# Altium footprint library RFID.PcbLib: 28 footprints (part 1 of 2)
Each footprint in its own frame and in the unit in brackets; x right, y up, seen from the top. Pads: shape width x height; smd on the part's side, far side on the other; paste and mask are expansions set on the pad; w line width, h text height; cw(c..) or ccw(c..) is an arc to the next point about the centre after c.
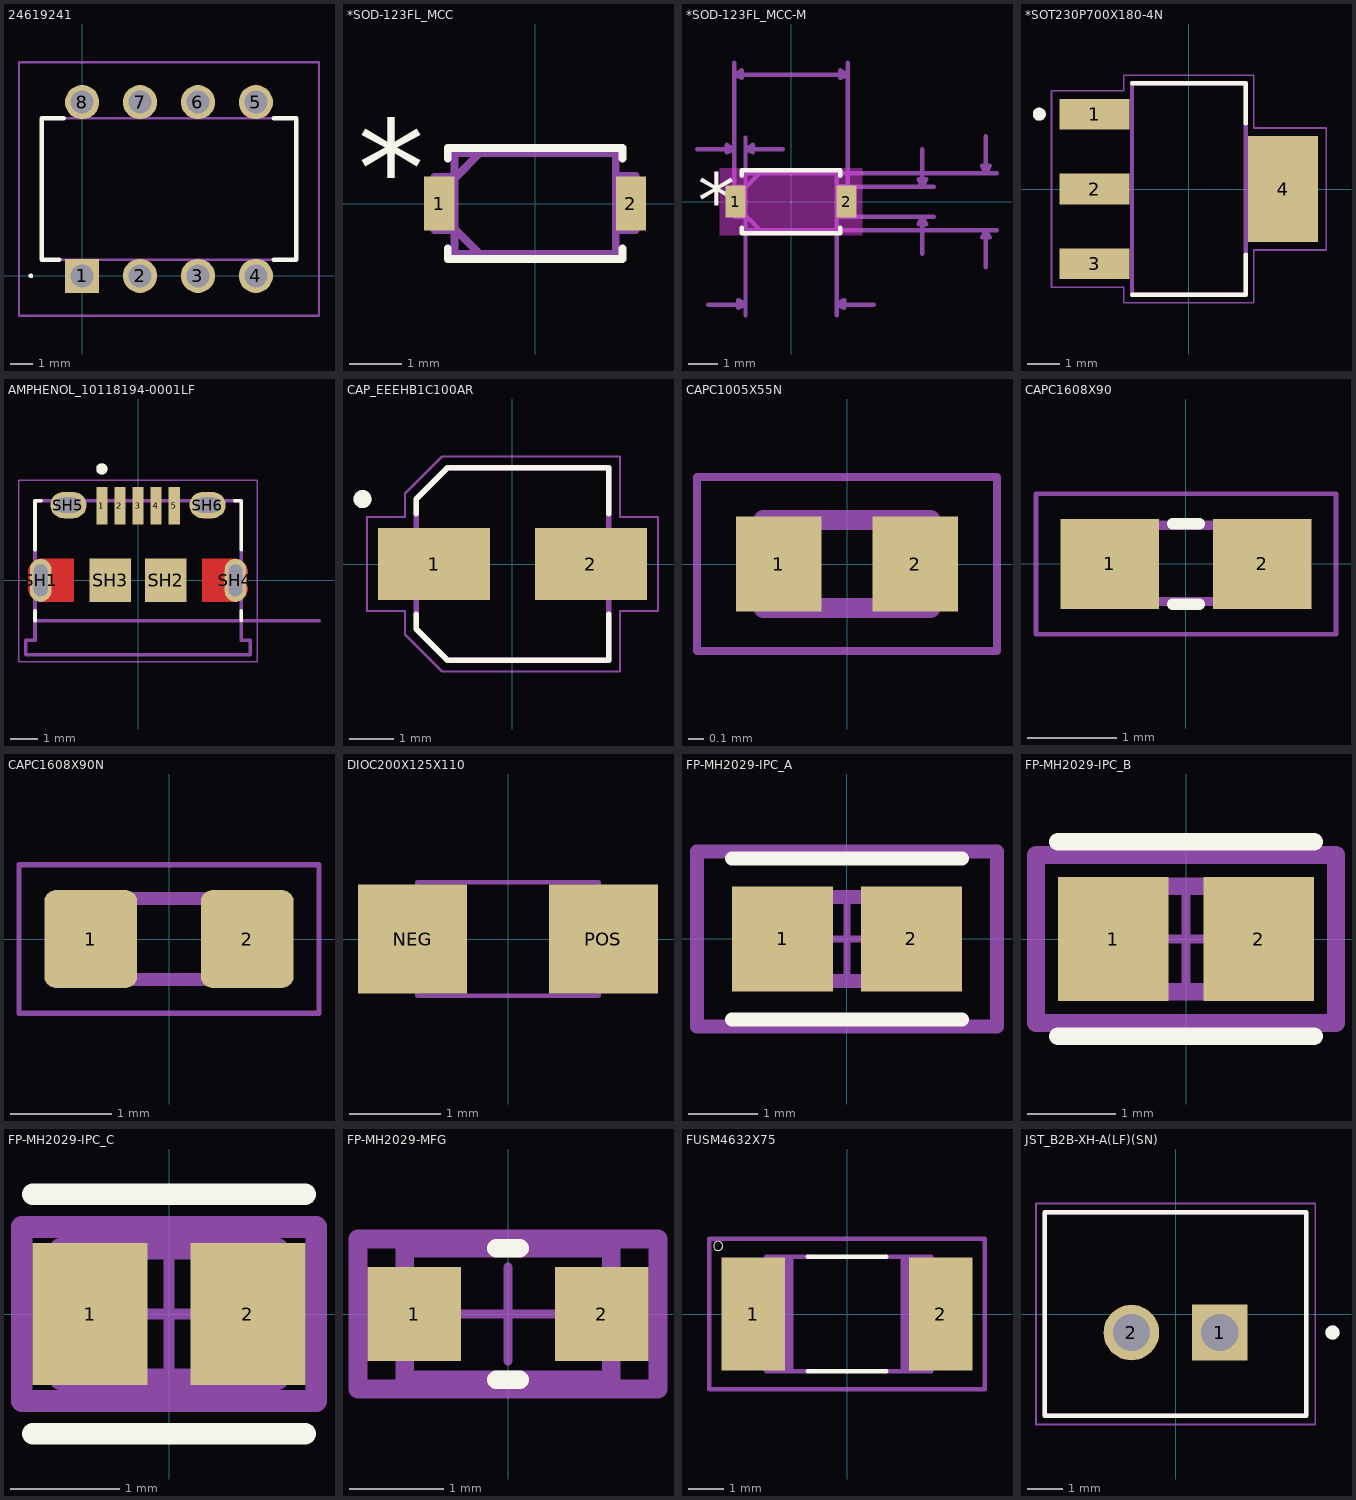
[diagram p0: the footprints below, top view; thin cyan lines are the x and y axes]

## 24619241 [mm]
pads (8):
  rect 1.5x1.5 hole 1: 1(0,0)
  round 1.5 hole 1: 2(2.54,0) 3(5.08,0) 4(7.62,0) 5(7.62,7.62) 6(5.08,7.62) 7(2.54,7.62) 8(0,7.62)
Top Overlay:
  lines w0.1: -2.3,0 cw(c-2.25,0) -2.2,0 cw(c-2.25,0) -2.3,0
  lines w0.2: -1,0.71 -1.77,0.71 -1.77,6.91 -0.8,6.91 ; 8.4,0.71 9.39,0.71 9.39,6.91 8.4,6.91
Mechanical 13:
  lines w0.1: -1.77,0.71 9.39,0.71 9.39,6.91 -1.77,6.91 -1.77,0.71
Mechanical 15:
  lines w0.1: -2.77,-1.75 10.39,-1.75 10.39,9.37 -2.77,9.37 -2.77,-1.75
3D body "2461924-1.stp": height 4.06, standoff -5, extent -1.77,-0.397 9.39,8.017

## *SOD-123FL_MCC [mil]
pads (2):
  rect 22.87x41 smd: 1(-72.44,0) 2(72.44,0)
Top Overlay:
  lines w6: -66,-34 -66,-42 66,-42 66,-34 ; -66,34 -66,42 66,42 66,34
  text "*" at -133.86,-9.84 h73.82
Mechanical 4:
  lines w6: -76,-20 -76,20 ; -76,-20 -61,-20 ; -76,-20 -76,20 ; -76,-20 -61,-20 ; -76,20 -61,20 ; -76,20 -61,20 ; -61,-38 61,-38 ; -61,-38 -61,38 ; -61,-38 61,-38 ; -61,-38 -61,38 ; -61,-20 -61,-19 ; -61,-20 -61,-19 ; -61,-19 -61,19 ; -61,-19 -42,-38 -61,-19 ; -61,-19 -61,19 ; -61,19 -61,20 ; -61,19 -42,38 -61,19 ; -61,19 -61,20 ; -61,38 61,38 ; -61,38 61,38 ; 61,-38 61,38 ; 61,-38 61,38 ; 61,-20 61,21 ; 61,-20 76,-20 ; 61,-20 61,21 ; 61,-20 76,-20 ; 61,21 76,21 ; 61,21 76,21 ; 76,-20 76,21 ; 76,-20 76,21
  text "*" at -74,-34.84 h73.82
  text "*" at -74,-34.84 h73.82

## *SOD-123FL_MCC-M [mm]
pads (2):
  rect 0.681x1.091 smd: 1(-1.89,0) 2(1.89,0)
Top Overlay:
  lines w0.152: -1.676,-0.889 -1.676,-1.067 1.676,-1.067 1.676,-0.889 ; -1.676,0.889 -1.676,1.067 1.676,1.067 1.676,0.889
  text "*" at -3.175,-0.885 h1.88
Keep-Out Layer:
  region: -1.499,0.902 1.499,0.902 1.499,-0.902 -1.499,-0.902
  region: -1.499,0.902 1.499,0.902 1.499,-0.902 -1.499,-0.902
  region: -2.421,-1.143 -2.421,1.143 2.421,1.143 2.421,-1.143
  region: -1.499,0.902 1.499,0.902 1.499,-0.902 -1.499,-0.902
  region: -1.499,0.902 1.499,0.902 1.499,-0.902 -1.499,-0.902
  region: -2.421,-1.143 -2.421,1.143 2.421,1.143 2.421,-1.143
  region: -1.499,0.902 1.499,0.902 1.499,-0.902 -1.499,-0.902
  region: -1.499,0.902 1.499,0.902 1.499,-0.902 -1.499,-0.902
  region: -2.421,-1.143 -2.421,1.143 2.421,1.143 2.421,-1.143
Mechanical 4:
  lines w0.152: -2.184,1.676 -2.184,1.93 ; -2.184,1.676 -1.93,1.778 ; -2.184,1.676 -2.184,1.93 ; -2.184,1.676 -1.93,1.778 ; -2.184,1.93 -1.93,1.778 ; -2.184,1.93 -1.93,1.778 ; -1.93,-0.508 -1.549,-0.508 ; -1.93,-0.508 -1.93,0.508 ; -1.93,-0.508 -1.549,-0.508 ; -1.93,-0.508 -1.93,0.508 ; -1.93,0.508 -1.549,0.508 ; -1.93,0.508 -1.549,0.508 ; -1.93,1.778 -3.2,1.778 -1.93,1.778 ; -1.93,1.778 -1.93,4.318 ; -1.93,1.778 -1.93,0 -1.93,1.778 ; -1.93,1.778 -1.93,4.318 ; -1.93,4.318 -1.676,4.216 ; -1.93,4.318 -1.676,4.47 ; -1.93,4.318 1.93,4.318 ; -1.93,4.318 -1.93,4.724 -1.93,4.318 ; -1.93,4.318 -1.676,4.216 ; -1.93,4.318 -1.676,4.47 ; -1.93,4.318 1.93,4.318 ; -1.803,-3.607 -1.803,-3.353 ; -1.803,-3.607 -1.549,-3.505 ; -1.803,-3.607 -1.803,-3.353 ; -1.803,-3.607 -1.549,-3.505 ; -1.803,-3.353 -1.549,-3.505 ; -1.803,-3.353 -1.549,-3.505 ; -1.676,4.216 -1.676,4.47 ; -1.676,4.216 -1.676,4.47 ; -1.549,-3.505 -2.819,-3.505 -1.549,-3.505 ; -1.549,-3.505 -1.549,-3.861 -1.549,-3.505 ; -1.549,-3.505 -1.549,1.778 ; -1.549,-3.505 -1.549,1.778 ; -1.549,-0.965 -1.549,0.965 ; -1.549,-0.965 1.549,-0.965 ; -1.549,-0.965 -1.549,0.965 ; -1.549,-0.965 1.549,-0.965 ; -1.549,-0.508 -1.549,-0.483 ; -1.549,-0.508 -1.549,-0.483 ; -1.549,-0.483 -1.067,-0.965 -1.549,-0.483 ; -1.549,-0.483 -1.549,0.483 ; -1.549,-0.483 -1.549,0.483 ; -1.549,0.483 -1.067,0.965 -1.549,0.483 ; -1.549,0.483 -1.549,0.508 ; -1.549,0.483 -1.549,0.508 ; -1.549,0.965 1.549,0.965 ; -1.549,0.965 1.549,0.965 ; -1.549,1.778 -1.295,1.676 ; -1.549,1.778 -1.295,1.93 ; -1.549,1.778 -0.279,1.778 -1.549,1.778 ; -1.549,1.778 -1.549,2.184 -1.549,1.778 ; -1.549,1.778 -1.295,1.676 ; -1.549,1.778 -1.295,1.93 ; -1.295,1.676 -1.295,1.93 ; -1.295,1.676 -1.295,1.93 ; 1.549,-3.505 1.803,-3.607 ; 1.549,-3.505 1.803,-3.353 ; 1.549,-3.505 2.819,-3.505 1.549,-3.505 ; 1.549,-3.505 1.549,-3.861 1.549,-3.505 ; 1.549,-3.505 1.549,0 1.549,-3.505 ; 1.549,-3.505 1.803,-3.607 ; 1.549,-3.505 1.803,-3.353 ; 1.549,-0.965 1.549,0.965 ; 1.549,-0.965 1.549,0.965 ; 1.549,-0.508 1.93,-0.508 ; 1.549,-0.508 1.549,0.533 ; 1.549,-0.508 1.93,-0.508 ; 1.549,-0.508 1.549,0.533 ; 1.549,0.533 1.93,0.533 ; 1.549,0.533 1.93,0.533 ; 1.676,4.216 1.676,4.47 ; 1.676,4.216 1.93,4.318 ; 1.676,4.216 1.676,4.47 ; 1.676,4.216 1.93,4.318 ; 1.676,4.47 1.93,4.318 ; 1.676,4.47 1.93,4.318 ; 1.803,-3.607 1.803,-3.353 ; 1.803,-3.607 1.803,-3.353 ; 1.93,-0.508 4.47,-0.508 ; 1.93,-0.508 1.93,0.533 ; 1.93,-0.508 4.47,-0.508 ; 1.93,-0.508 1.93,0.533 ; 1.93,0.508 4.47,0.508 ; 1.93,0.508 1.93,4.318 ; 1.93,0.508 1.93,0 1.93,0.508 ; 1.93,0.508 4.47,0.508 ; 1.93,0.508 1.93,4.318 ; 1.93,4.318 1.93,4.724 1.93,4.318 ; 4.343,-0.762 4.597,-0.762 ; 4.343,-0.762 4.47,-0.508 ; 4.343,-0.762 4.597,-0.762 ; 4.343,-0.762 4.47,-0.508 ; 4.343,0.762 4.597,0.762 ; 4.343,0.762 4.47,0.508 ; 4.343,0.762 4.597,0.762 ; 4.343,0.762 4.47,0.508 ; 4.47,-0.508 4.597,-0.762 ; 4.47,-0.508 4.47,-1.778 4.47,-0.508 ; 4.47,-0.508 4.851,-0.508 4.47,-0.508 ; 4.47,-0.508 4.597,-0.762 ; 4.47,0.508 4.597,0.762 ; 4.47,0.508 4.47,1.778 4.47,0.508 ; 4.47,0.508 4.851,0.508 4.47,0.508 ; 4.47,0.508 4.597,0.762 ; 6.502,-1.219 6.756,-1.219 ; 6.502,-1.219 6.629,-0.965 ; 6.502,-1.219 6.756,-1.219 ; 6.502,-1.219 6.629,-0.965 ; 6.502,1.219 6.756,1.219 ; 6.502,1.219 6.629,0.965 ; 6.502,1.219 6.756,1.219 ; 6.502,1.219 6.629,0.965 ; 6.629,-0.965 6.756,-1.219 ; 6.629,-0.965 6.629,-2.235 6.629,-0.965 ; 6.629,-0.965 7.01,-0.965 6.629,-0.965 ; 6.629,-0.965 0,-0.965 6.629,-0.965 ; 6.629,-0.965 6.756,-1.219 ; 6.629,0.965 6.756,1.219 ; 6.629,0.965 6.629,2.235 6.629,0.965 ; 6.629,0.965 7.01,0.965 6.629,0.965 ; 6.629,0.965 0,0.965 6.629,0.965 ; 6.629,0.965 6.756,1.219
  text "0.122in/3.099mm" at -4.039,-4.873 h1.88
  text "0.075in/1.905mm" at 7.137,-0.555 h1.88
  text "0.041in/1.041mm" at 4.978,-0.555 h1.88
  text "0.015in/0.381mm" at -5.791,2.036 h1.88
  text "0.152in/3.861mm" at -4.039,4.576 h1.88
  text "Alt 2 Padstyle: b229_152h76" at -14.808,-12.848 h1.88
  text "Alt 1 Padstyle: b152_229h76" at -14.808,-10.943 h1.88
  text "Default Padstyle: r68_109" at -13.462,-9.038 h1.88
  text "*" at -1.88,-0.885 h1.88
  text "0.122in/3.099mm" at -4.039,-4.873 h1.88
  text "0.075in/1.905mm" at 7.137,-0.555 h1.88
  text "0.041in/1.041mm" at 4.978,-0.555 h1.88
  text "0.015in/0.381mm" at -5.791,2.036 h1.88
  text "0.152in/3.861mm" at -4.039,4.576 h1.88
  text "Alt 2 Padstyle: b229_152h76" at -14.808,-12.848 h1.88
  text "Alt 1 Padstyle: b152_229h76" at -14.808,-10.943 h1.88
  text "Default Padstyle: r68_109" at -13.462,-9.038 h1.88
  text "*" at -1.88,-0.885 h1.88

## *SOT230P700X180-4N [mm]
pads (4):
  rect 2.15x0.95 smd: 1(-2.9,2.3) 2(-2.9,0) 3(-2.9,-2.3)
  rect 2.15x3.25 smd: 4(2.9,0)
Top Overlay:
  circle w0.2: c-4.6,2.3 r0.1
  lines w0.127: -1.75,-3.25 1.75,-3.25 1.75,-2.01 ; -1.75,3.25 1.75,3.25 1.75,2.01
Mechanical 4:
  circle w0.2: c-4.6,2.3 r0.1
  circle w0.2: c-4.6,2.3 r0.1
  lines w0.127: -1.75,-3.25 1.75,-3.25 ; -1.75,-3.25 -1.75,3.25 ; -1.75,-3.25 1.75,-3.25 ; -1.75,-3.25 -1.75,3.25 ; -1.75,3.25 1.75,3.25 ; -1.75,3.25 1.75,3.25 ; 1.75,-3.25 1.75,3.25 ; 1.75,-3.25 1.75,3.25
Mechanical 16:
  lines w0.05: -4.225,-3.025 -2,-3.025 -2,-3.5 2,-3.5 2,-1.875 4.225,-1.875 4.225,1.875 2,1.875 2,3.5 -2,3.5 -2,3.025 -4.225,3.025 -4.225,-3.025

## AMPHENOL_10118194-0001LF [mm]
height 2.66
pads (11):
  rect 0.4x1.35 smd: 1(-1.3,2.675) 2(-0.65,2.675) 3(0,2.675) 4(0.65,2.675) 5(1.3,2.675)
  oval 0.775x1.55 hole 0.5 slot 1.15 at 90 deg mask+0: SH1(-3.5,0) SH4(3.5,0)
  rect 1.5x1.55 smd: SH2(1,0) SH3(-1,0)
  oval 1.3x0.95 hole 0.55 slot 0.9 at 0 deg: SH5(-2.5,2.7) SH6(2.5,2.7)
Top Layer:
  region: -2.3,-0.775 -3.445,-0.775 -3.471,-0.774 -3.497,-0.772 -3.523,-0.769 -3.549,-0.764 -3.574,-0.758 -3.6,-0.751 -3.624,-0.742 -3.648,-0.732 -3.672,-0.721 -3.695,-0.708 -3.717,-0.694 -3.739,-0.68 -3.76,-0.664 -3.78,-0.647 -3.799,-0.629 -3.817,-0.61 -3.834,-0.59 -3.85,-0.569 -3.864,-0.547 -3.878,-0.525 -3.891,-0.502 -3.902,-0.478 -3.912,-0.454 -3.921,-0.43 -3.928,-0.404 -3.934,-0.379 -3.939,-0.353 -3.942,-0.327 -3.944,-0.301 -3.945,-0.275 -3.945,0.275 -3.944,0.301 -3.942,0.327 -3.939,0.353 -3.934,0.379 -3.928,0.404 -3.921,0.43 -3.912,0.454 -3.902,0.478 -3.891,0.502 -3.878,0.525 -3.864,0.547 -3.85,0.569 -3.834,0.59 -3.817,0.61 -3.799,0.629 -3.78,0.647 -3.76,0.664 -3.739,0.68 -3.717,0.694 -3.695,0.708 -3.672,0.721 -3.648,0.732 -3.624,0.742 -3.6,0.751 -3.574,0.758 -3.549,0.764 -3.523,0.769 -3.497,0.772 -3.471,0.774 -3.445,0.775 -2.3,0.775
  region: 3.471,0.774 3.497,0.772 3.523,0.769 3.549,0.764 3.574,0.758 3.6,0.751 3.624,0.742 3.648,0.732 3.672,0.721 3.695,0.708 3.717,0.694 3.739,0.68 3.76,0.664 3.78,0.647 3.799,0.629 3.817,0.61 3.834,0.59 3.85,0.569 3.864,0.547 3.878,0.525 3.891,0.502 3.902,0.478 3.912,0.454 3.921,0.43 3.928,0.404 3.934,0.379 3.939,0.353 3.942,0.327 3.944,0.301 3.945,0.275 3.945,-0.275 3.944,-0.301 3.942,-0.327 3.939,-0.353 3.934,-0.379 3.928,-0.404 3.921,-0.43 3.912,-0.454 3.902,-0.478 3.891,-0.502 3.878,-0.525 3.864,-0.547 3.85,-0.569 3.834,-0.59 3.817,-0.61 3.799,-0.629 3.78,-0.647 3.76,-0.664 3.739,-0.68 3.717,-0.694 3.695,-0.708 3.672,-0.721 3.648,-0.732 3.624,-0.742 3.6,-0.751 3.574,-0.758 3.549,-0.764 3.523,-0.769 3.497,-0.772 3.471,-0.774 3.445,-0.775 2.3,-0.775 2.3,0.775 3.445,0.775
Top Overlay:
  circle w0.2: c-1.3,4 r0.1
  lines w0.127: -3.7,-1.45 -3.7,-1.1 ; -3.7,1.1 -3.7,2.85 -3.47,2.85 ; 3.47,2.85 3.7,2.85 3.7,1.1 ; 3.7,-1.45 3.7,-1.1
Top Paste:
  region: -2.3,-0.775 -3.445,-0.775 -3.471,-0.774 -3.497,-0.772 -3.523,-0.769 -3.549,-0.764 -3.574,-0.758 -3.6,-0.751 -3.624,-0.742 -3.648,-0.732 -3.672,-0.721 -3.695,-0.708 -3.717,-0.694 -3.739,-0.68 -3.76,-0.664 -3.78,-0.647 -3.799,-0.629 -3.817,-0.61 -3.834,-0.59 -3.85,-0.569 -3.864,-0.547 -3.878,-0.525 -3.891,-0.502 -3.902,-0.478 -3.912,-0.454 -3.921,-0.43 -3.928,-0.404 -3.934,-0.379 -3.939,-0.353 -3.942,-0.327 -3.944,-0.301 -3.945,-0.275 -3.945,0.275 -3.944,0.301 -3.942,0.327 -3.939,0.353 -3.934,0.379 -3.928,0.404 -3.921,0.43 -3.912,0.454 -3.902,0.478 -3.891,0.502 -3.878,0.525 -3.864,0.547 -3.85,0.569 -3.834,0.59 -3.817,0.61 -3.799,0.629 -3.78,0.647 -3.76,0.664 -3.739,0.68 -3.717,0.694 -3.695,0.708 -3.672,0.721 -3.648,0.732 -3.624,0.742 -3.6,0.751 -3.574,0.758 -3.549,0.764 -3.523,0.769 -3.497,0.772 -3.471,0.774 -3.445,0.775 -2.3,0.775
  region: 3.471,0.774 3.497,0.772 3.523,0.769 3.549,0.764 3.574,0.758 3.6,0.751 3.624,0.742 3.648,0.732 3.672,0.721 3.695,0.708 3.717,0.694 3.739,0.68 3.76,0.664 3.78,0.647 3.799,0.629 3.817,0.61 3.834,0.59 3.85,0.569 3.864,0.547 3.878,0.525 3.891,0.502 3.902,0.478 3.912,0.454 3.921,0.43 3.928,0.404 3.934,0.379 3.939,0.353 3.942,0.327 3.944,0.301 3.945,0.275 3.945,-0.275 3.944,-0.301 3.942,-0.327 3.939,-0.353 3.934,-0.379 3.928,-0.404 3.921,-0.43 3.912,-0.454 3.902,-0.478 3.891,-0.502 3.878,-0.525 3.864,-0.547 3.85,-0.569 3.834,-0.59 3.817,-0.61 3.799,-0.629 3.78,-0.647 3.76,-0.664 3.739,-0.68 3.717,-0.694 3.695,-0.708 3.672,-0.721 3.648,-0.732 3.624,-0.742 3.6,-0.751 3.574,-0.758 3.549,-0.764 3.523,-0.769 3.497,-0.772 3.471,-0.774 3.445,-0.775 2.3,-0.775 2.3,0.775 3.445,0.775
Top Solder:
  region: -2.2,-0.875 -3.445,-0.875 -3.476,-0.874 -3.508,-0.872 -3.539,-0.868 -3.57,-0.862 -3.6,-0.855 -3.63,-0.846 -3.66,-0.835 -3.689,-0.823 -3.717,-0.81 -3.745,-0.795 -3.772,-0.778 -3.798,-0.76 -3.823,-0.741 -3.846,-0.721 -3.869,-0.699 -3.891,-0.676 -3.911,-0.653 -3.93,-0.628 -3.948,-0.602 -3.965,-0.575 -3.98,-0.547 -3.993,-0.519 -4.005,-0.49 -4.016,-0.46 -4.025,-0.43 -4.032,-0.4 -4.038,-0.369 -4.042,-0.338 -4.044,-0.306 -4.045,-0.275 -4.045,0.275 -4.044,0.306 -4.042,0.338 -4.038,0.369 -4.032,0.4 -4.025,0.43 -4.016,0.46 -4.005,0.49 -3.993,0.519 -3.98,0.547 -3.965,0.575 -3.948,0.602 -3.93,0.628 -3.911,0.653 -3.891,0.676 -3.869,0.699 -3.846,0.721 -3.823,0.741 -3.798,0.76 -3.772,0.778 -3.745,0.795 -3.717,0.81 -3.689,0.823 -3.66,0.835 -3.63,0.846 -3.6,0.855 -3.57,0.862 -3.539,0.868 -3.508,0.872 -3.476,0.874 -3.445,0.875 -2.2,0.875
  region: 3.476,0.874 3.508,0.872 3.539,0.868 3.57,0.862 3.6,0.855 3.63,0.846 3.66,0.835 3.689,0.823 3.717,0.81 3.745,0.795 3.772,0.778 3.798,0.76 3.823,0.741 3.846,0.721 3.869,0.699 3.891,0.676 3.911,0.653 3.93,0.628 3.948,0.602 3.965,0.575 3.98,0.547 3.993,0.519 4.005,0.49 4.016,0.46 4.025,0.43 4.032,0.4 4.038,0.369 4.042,0.338 4.044,0.306 4.045,0.275 4.045,-0.275 4.044,-0.306 4.042,-0.338 4.038,-0.369 4.032,-0.4 4.025,-0.43 4.016,-0.46 4.005,-0.49 3.993,-0.519 3.98,-0.547 3.965,-0.575 3.948,-0.602 3.93,-0.628 3.911,-0.653 3.891,-0.676 3.869,-0.699 3.846,-0.721 3.823,-0.741 3.798,-0.76 3.772,-0.778 3.745,-0.795 3.717,-0.81 3.689,-0.823 3.66,-0.835 3.63,-0.846 3.6,-0.855 3.57,-0.862 3.539,-0.868 3.508,-0.872 3.476,-0.874 3.445,-0.875 2.2,-0.875 2.2,0.875 3.445,0.875
Bottom Solder:
  drawing of 2 lines, arcs and shapes, not listed
Mechanical 13:
  circle w0.2: c-1.3,4 r0.1
  lines w0.127: 6.5,-1.45 -3.7,-1.45 ; -3.7,-1.45 -3.7,-2.15 -4.025,-2.15 -4.025,-2.68 4.025,-2.68 4.025,-2.15 3.7,-2.15 3.7,2.85 -3.7,2.85 -3.7,-1.45
  text "PCB EDGE" at 4.25,-1.25 h0.81
Mechanical 15:
  lines w0.05: -4.275,-2.93 -4.275,3.6 4.275,3.6 4.275,-2.93 -4.275,-2.93
3D body "step_temp.STEP": height 2.67, standoff -0.6, extent -4.025,-2.68 4.025,2.85

## CAP_EEEHB1C100AR [mm]
height 5.8
pads (2):
  rect 2.5x1.6 smd: 1(-1.75,0) 2(1.75,0)
Top Overlay:
  circle w0.2: c-3.35,1.45 r0.1
  lines w0.127: -2.15,-1.12 -2.15,-1.45 -1.45,-2.15 2.15,-2.15 2.15,-1.12 ; -2.15,1.12 -2.15,1.45 -1.45,2.15 2.15,2.15 2.15,1.12
Mechanical 13:
  circle w0.2: c-3.35,1.45 r0.1
  lines w0.127: -2.15,-1.45 -2.15,1.45 -1.45,2.15 2.15,2.15 2.15,-2.15 -1.45,-2.15 -2.15,-1.45
Mechanical 15:
  lines w0.05: -3.25,-1.05 -2.4,-1.05 -2.4,-1.575 -1.575,-2.4 2.4,-2.4 2.4,-1.05 3.25,-1.05 3.25,1.05 2.4,1.05 2.4,2.4 -1.575,2.4 -2.4,1.575 -2.4,1.05 -3.25,1.05 -3.25,-1.05
3D body "step_temp.STEP": height 5.3, standoff -0.5, extent -2.5,-2.15 2.5,2.15

## CAPC1005X55N [mm]
pads (2):
  rect 0.54x0.6 smd: 1(-0.432,0) 2(0.432,0)
Mechanical 13:
  lines w0.127: -0.53,-0.28 0.53,-0.28 0.53,0.28 -0.53,0.28 -0.53,-0.28
Mechanical 15:
  lines w0.05: -0.95,-0.55 0.95,-0.55 0.95,0.55 -0.95,0.55 -0.95,-0.55
3D body "step_temp.STEP": height 0.55, standoff 0, extent -0.5,-0.25 0.5,0.25

## CAPC1608X90 [mm]
pads (2):
  rect 1.1x1 smd: 1(-0.85,0) 2(0.85,0)
Top Overlay:
  lines w0.127: -0.15,-0.45 0.15,-0.45 ; -0.15,0.45 0.15,0.45
Mechanical 13:
  region: -0.338,-0.47 -0.839,-0.47 -0.839,0.48 -0.338,0.48
  region: 0.83,-0.471 0.331,-0.471 0.331,0.48 0.83,0.48
  lines w0.102: -0.356,-0.419 0.356,-0.419 ; -0.356,0.432 0.356,0.432
Mechanical 15:
  lines w0.051: -1.673,-0.783 1.673,-0.783 1.673,0.783 -1.673,0.783 -1.673,-0.783
3D body "step_temp.STEP": height 0.95, standoff 0, extent -0.8,-0.4 0.8,0.4

## CAPC1608X90N [mm]
height 0.9
pads (2):
  rrect25% 0.92x0.97 smd: 1(-0.775,0) 2(0.775,0)
Mechanical 13:
  lines w0.127: -0.8,-0.4 -0.8,0.4 0.8,0.4 0.8,-0.4 -0.8,-0.4
Mechanical 15:
  lines w0.05: -1.485,-0.735 -1.485,0.735 1.485,0.735 1.485,-0.735 -1.485,-0.735

## DIOC200X125X110 [mm]
pads (2):
  rect 1.2x1.2 smd: NEG(-1.05,0) POS(1.05,0)
Mechanical 13:
  region: -0.8,-0.1 -1.002,-0.1 -1.002,0.1 -0.8,0.1
  lines w0.05: -1,-0.625 1,-0.625 1,0.625 -1,0.625 -1,-0.625
3D body "step_temp.STEP": height 1.1, standoff 0, extent -1,-0.625 1,0.625

## FP-MH2029-IPC_A [mm]
pads (2):
  rect 1.455x1.506 smd paste+0 mask+0: 1(-0.926,0) 2(0.926,0)
Top Overlay:
  lines w0.2: -1.653,-1.153 1.653,-1.153 ; -1.653,1.153 1.653,1.153
Top 3D Body:
  lines w0.2: -1,-0.6 -1,0.6 1,0.6 1,-0.6 -1,-0.6
Top Courtyard:
  lines w0.2: -2.153,-1.253 -2.153,1.253 2.153,1.253 2.153,-1.253 -2.153,-1.253
Top Assembly:
  lines w0.2: -2.153,-1.253 -2.153,1.253 2.153,1.253 2.153,-1.253 -2.153,-1.253
  text ".Designator" at 0,-0.001 h1
Top Component Center:
  lines w0.1: -0.5,0 0.5,0 ; 0,-0.5 0,0.5

## FP-MH2029-IPC_B [mm]
pads (2):
  rect 1.255x1.406 smd paste+0 mask+0: 1(-0.826,0) 2(0.826,0)
Top Overlay:
  lines w0.2: -1.453,-1.103 1.453,-1.103 ; -1.453,1.103 1.453,1.103
Top 3D Body:
  lines w0.2: -1,-0.6 1,-0.6 1,0.6 -1,0.6 -1,-0.6
Top Courtyard:
  lines w0.2: -1.703,-0.953 1.703,-0.953 1.703,0.953 -1.703,0.953 -1.703,-0.953
Top Assembly:
  lines w0.2: -1.703,-0.953 1.703,-0.953 1.703,0.953 -1.703,0.953 -1.703,-0.953
  text ".Designator" at 0,-0.001 h1
Top Component Center:
  lines w0.1: -0.5,0 0.5,0 ; 0,-0.5 0,0.5

## FP-MH2029-IPC_C [mm]
pads (2):
  rect 1.055x1.306 smd paste+0 mask+0: 1(-0.726,0) 2(0.726,0)
Top Overlay:
  lines w0.2: -1.253,-1.1 1.253,-1.1 ; -1.253,1.1 1.253,1.1
Top 3D Body:
  lines w0.2: -1,-0.6 1,-0.6 1,0.6 -1,0.6 -1,-0.6
Top Courtyard:
  lines w0.2: -1.353,-0.8 1.353,-0.8 1.353,0.8 -1.353,0.8 -1.353,-0.8
Top Assembly:
  lines w0.2: -1.353,-0.8 1.353,-0.8 1.353,0.8 -1.353,0.8 -1.353,-0.8
  text ".Designator" at 0,-0.001 h1
Top Component Center:
  lines w0.1: -0.5,0 0.5,0 ; 0,-0.5 0,0.5

## FP-MH2029-MFG [mm]
pads (2):
  rect 1x1 smd paste+0 mask+0: 1(-1,0) 2(1,0)
Top Overlay:
  lines w0.2: -0.125,-0.7 0.125,-0.7 ; -0.125,0.7 0.125,0.7
Top 3D Body:
  lines w0.2: -1.1,-0.7 1.1,-0.7 1.1,0.7 -1.1,0.7 -1.1,-0.7
Top Courtyard:
  lines w0.2: -1.6,-0.8 1.6,-0.8 1.6,0.8 -1.6,0.8 -1.6,-0.8
Top Assembly:
  lines w0.2: -1.6,-0.8 1.6,-0.8 1.6,0.8 -1.6,0.8 -1.6,-0.8
  text ".Designator" at 0,0.188 h1
Top Component Center:
  lines w0.1: -0.5,0 0.5,0 ; 0,-0.5 0,0.5
3D body "FBead_Bourns_MH2029-300Y_eec.STEP": height 0.25, standoff 0, extent -1.6,-0.8 1.6,0.8

## FUSM4632X75 [mm]
pads (2):
  rect 1.78x3.15 smd: 1(-2.615,0) 2(2.615,0)
Top Overlay:
  circle w0: c-3.6,1.9 r0.127
  lines w0.127: -1.1,-1.6 1.1,-1.6 ; -1.1,1.6 1.1,1.6
Mechanical 13:
  region: -1.5,-1.6 -2.25,-1.6 -2.25,-0.5 -2.224,-0.499 -2.198,-0.497 -2.172,-0.494 -2.146,-0.489 -2.121,-0.483 -2.095,-0.476 -2.071,-0.467 -2.047,-0.457 -2.023,-0.446 -2,-0.433 -1.978,-0.419 -1.956,-0.405 -1.935,-0.389 -1.915,-0.372 -1.896,-0.354 -1.878,-0.335 -1.861,-0.315 -1.845,-0.294 -1.831,-0.272 -1.817,-0.25 -1.804,-0.227 -1.793,-0.203 -1.783,-0.179 -1.774,-0.155 -1.767,-0.129 -1.761,-0.104 -1.756,-0.078 -1.753,-0.052 -1.751,-0.026 -1.75,0 -1.751,0.026 -1.753,0.052 -1.756,0.078 -1.761,0.104 -1.767,0.129 -1.774,0.155 -1.783,0.179 -1.793,0.203 -1.804,0.227 -1.817,0.25 -1.831,0.272 -1.845,0.294 -1.861,0.315 -1.878,0.335 -1.896,0.354 -1.915,0.372 -1.935,0.389 -1.956,0.405 -1.978,0.419 -2,0.433 -2.023,0.446 -2.047,0.457 -2.071,0.467 -2.095,0.476 -2.121,0.483 -2.146,0.489 -2.172,0.494 -2.198,0.497 -2.224,0.499 -2.25,0.5 -2.25,1.6 -1.5,1.6
  region: 2.35,0.5 2.324,0.499 2.298,0.497 2.272,0.494 2.246,0.489 2.221,0.483 2.195,0.476 2.171,0.467 2.147,0.457 2.123,0.446 2.1,0.433 2.078,0.419 2.056,0.405 2.035,0.389 2.015,0.372 1.996,0.354 1.978,0.335 1.961,0.315 1.945,0.294 1.931,0.272 1.917,0.25 1.904,0.227 1.893,0.203 1.883,0.179 1.874,0.155 1.867,0.129 1.861,0.104 1.856,0.078 1.853,0.052 1.851,0.026 1.85,0 1.851,-0.026 1.853,-0.052 1.856,-0.078 1.861,-0.104 1.867,-0.129 1.874,-0.155 1.883,-0.179 1.893,-0.203 1.904,-0.227 1.917,-0.25 1.931,-0.272 1.945,-0.294 1.961,-0.315 1.978,-0.335 1.996,-0.354 2.015,-0.372 2.035,-0.389 2.056,-0.405 2.078,-0.419 2.1,-0.433 2.123,-0.446 2.147,-0.457 2.171,-0.467 2.195,-0.476 2.221,-0.483 2.246,-0.489 2.272,-0.494 2.298,-0.497 2.324,-0.499 2.35,-0.5 2.35,-1.6 1.5,-1.6 1.5,1.6 2.35,1.6
  lines w0.127: -1.1,-1.6 -2.25,-1.6 -2.25,-0.5 ccw(c-2.25,0) -2.25,0.5 -2.25,1.6 -1.1,1.6 ; 1.1,-1.6 2.35,-1.6 2.35,-0.5 cw(c2.35,0) 2.35,0.5 2.35,1.6 1.1,1.6
Mechanical 15:
  lines w0.127: -3.85,-2.1 -3.85,2.1 3.85,2.1 3.85,-2.1 -3.85,-2.1
3D body "step_temp.STEP": height 1.25, standoff 0, extent -2.275,-1.62 2.275,1.62

## JST_B2B-XH-A(LF)(SN) [mm]
height 7
pads (2):
  rect 1.575x1.575 / inner round 1.575 / far side rect 1.575x1.575 hole 1.05: 1(1.25,-0.525)
  round 1.575 hole 1.05: 2(-1.25,-0.525)
Top Overlay:
  circle w0.2: c4.44,-0.525 r0.1
  lines w0.127: -3.7,-2.875 -3.7,2.875 3.7,2.875 3.7,-2.875 -3.7,-2.875
Mechanical 13:
  circle w0.2: c4.44,-0.525 r0.1
  lines w0.127: -3.7,-2.875 -3.7,2.875 3.7,2.875 3.7,-2.875 -3.7,-2.875
Mechanical 15:
  lines w0.05: -3.95,-3.125 3.95,-3.125 3.95,3.125 -3.95,3.125 -3.95,-3.125
3D body "step_temp.STEP": height 7, standoff -3.4, extent -3.7,-2.875 3.7,2.875